# Altium schematic symbol library MAX5436.Schlib: 1 symbol
Pins are listed as number, name and electrical type; pins without a type are passive.

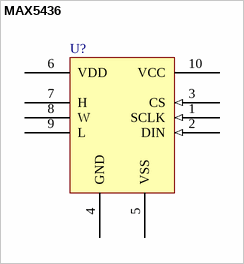
[diagram p0: symbol MAX5436]

## MAX5436
designator U?
pins: 1 SCLK (in), 2 DIN (in), 3 CS (in), 4 GND (power), 5 VSS (power), 6 VDD (power), 7 H, 8 W, 9 L, 10 VCC (power)